# Altium schematic symbol library Teensy3_5.SchLib: 1 symbol
Pins are listed as number, name and electrical type; pins without a type are passive.

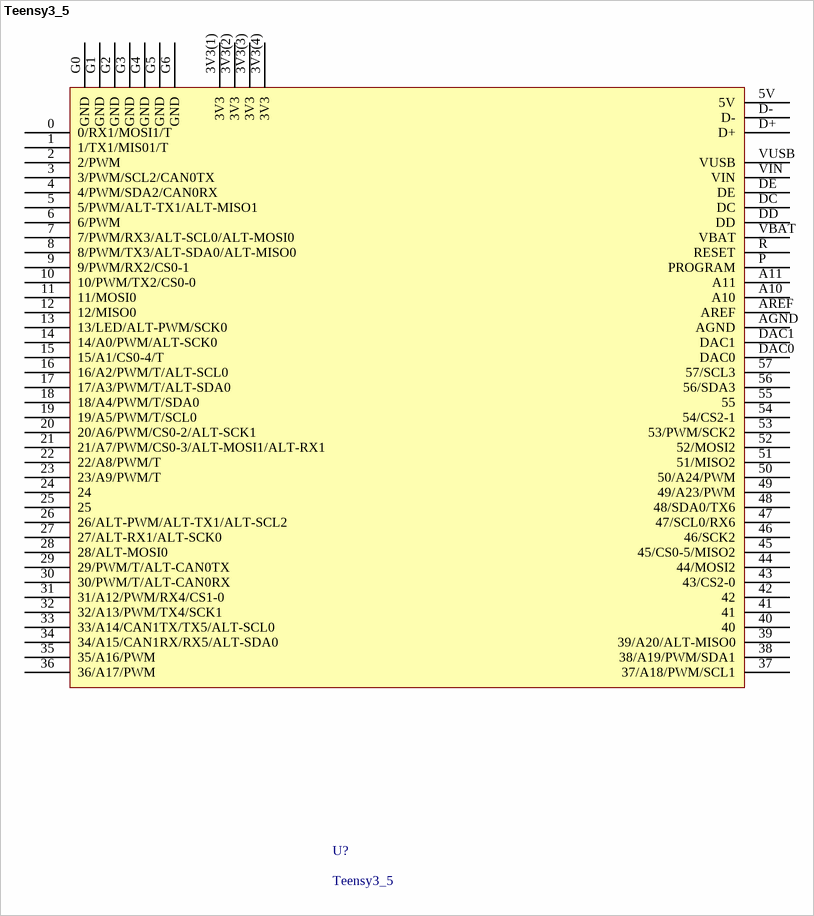
[diagram p0: symbol Teensy3_5]

## Teensy3_5
designator U?
footprint Teensy3_5
pins: 0 0/RX1/MOSI1/T, 1 1/TX1/MIS01/T, 2 2/PWM, 3 3/PWM/SCL2/CAN0TX, 3V3(1) 3V3, 3V3(2) 3V3, 3V3(3) 3V3, 3V3(4) 3V3, 4 4/PWM/SDA2/CAN0RX, 5 5/PWM/ALT-TX1/ALT-MISO1, 5V, 6 6/PWM, 7 7/PWM/RX3/ALT-SCL0/ALT-MOSI0, 8 8/PWM/TX3/ALT-SDA0/ALT-MISO0, 9 9/PWM/RX2/CS0-1, 10 10/PWM/TX2/CS0-0, 11 11/MOSI0, 12 12/MISO0, 13 13/LED/ALT-PWM/SCK0, 14 14/A0/PWM/ALT-SCK0, 15 15/A1/CS0-4/T, 16 16/A2/PWM/T/ALT-SCL0, 17 17/A3/PWM/T/ALT-SDA0, 18 18/A4/PWM/T/SDA0, 19 19/A5/PWM/T/SCL0, 20 20/A6/PWM/CS0-2/ALT-SCK1, 21 21/A7/PWM/CS0-3/ALT-MOSI1/ALT-RX1, 22 22/A8/PWM/T, 23 23/A9/PWM/T, 24, 25, 26 26/ALT-PWM/ALT-TX1/ALT-SCL2, 27 27/ALT-RX1/ALT-SCK0, 28 28/ALT-MOSI0, 29 29/PWM/T/ALT-CAN0TX, 30 30/PWM/T/ALT-CAN0RX, 31 31/A12/PWM/RX4/CS1-0, 32 32/A13/PWM/TX4/SCK1, 33 33/A14/CAN1TX/TX5/ALT-SCL0, 34 34/A15/CAN1RX/RX5/ALT-SDA0, 35 35/A16/PWM, 36 36/A17/PWM, 37 37/A18/PWM/SCL1, 38 38/A19/PWM/SDA1, 39 39/A20/ALT-MISO0, 40, 41, 42, 43 43/CS2-0, 44 44/MOSI2, 45 45/CS0-5/MISO2, 46 46/SCK2, 47 47/SCL0/RX6, 48 48/SDA0/TX6, 49 49/A23/PWM, 50 50/A24/PWM, 51 51/MISO2, 52 52/MOSI2, 53 53/PWM/SCK2, 54 54/CS2-1, 55, 56 56/SDA3, 57 57/SCL3, A10, A11, AGND, AREF, D+, D-, DAC0, DAC1, DC, DD, DE, G0 GND, G1 GND, G2 GND, G3 GND, G4 GND, G5 GND, G6 GND, P PROGRAM, R RESET, VBAT, VIN, VUSB